# EAGLE library part DMG1016UDW-7 (library SamacSys_Parts)
Diodes Inc DMG1016UDW-7 Dual N/P-channel MOSFET, 1 A, 840 mA, 20 V, 6-Pin SOT-363 Source: Datasheet <https://www.diodes.com/assets/Datasheets/ds31860.pdf>
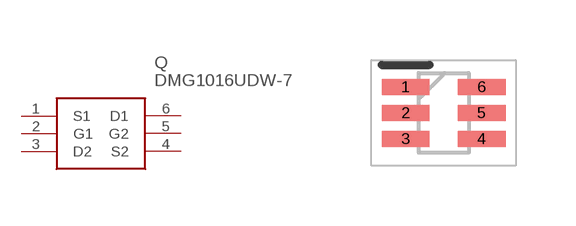
[diagram p144: symbol with the pads of SOT65P210X110-6N; footprint SOT65P210X110-6N]

Designator prefix Q

## DMG1016UDW-7 (DESCRIPTION: Diodes Inc DMG1016UDW-7 Dual N/P-channel MOSFET, 1 A, 840 mA, 20 V, 6-Pin SOT-363; HEIGHT: 1.1mm; MANUFACTURER_NAME: Diodes Inc.; MANUFACTURER_PART_NUMBER: DMG1016UDW-7; MOUSER_PART_NUMBER: 621-DMG1016UDW-7; MOUSER_PRICE-STOCK: https://www.mouser.co.uk/ProductDetail/Diodes-Incorporated/DMG1016UDW-7?qs=GWgl%252BsiMZr8KoDu9h3LKlQ%3D%3D)  [SOT65P210X110-6N]
1  S1
2  G1
3  D2
4  S2
5  G2
6  D1

## Footprint SOT65P210X110-6N (pad centres in mm)
DCK (R-PDSO-G6)
smd 1.2 x 0.4: 1 -0.95,0.65; 2 -0.95,0; 3 -0.95,-0.65; 4 0.95,-0.65; 5 0.95,0; 6 0.95,0.65